# Altium schematic symbol library SMD Transistors.SchLib: 34 symbols
Pins are listed as number, name and electrical type; pins without a type are passive.

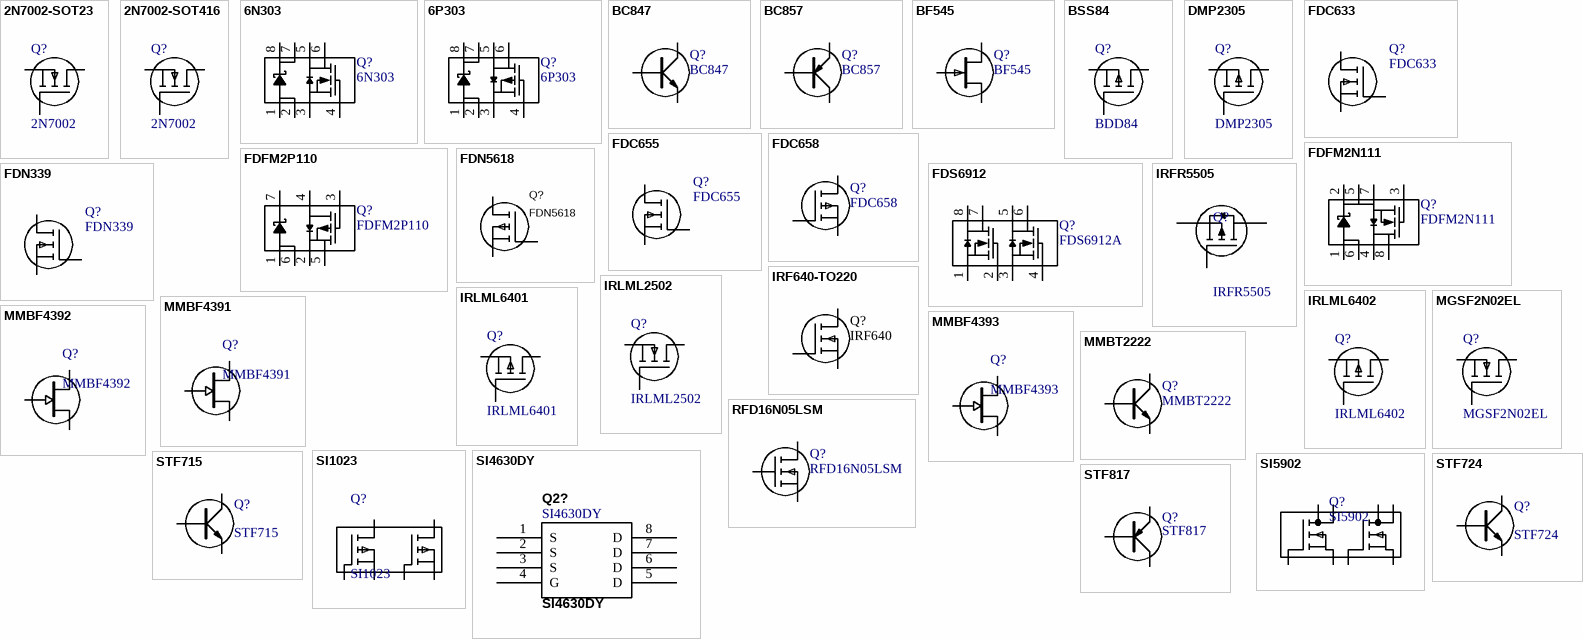
[diagram p0: symbols 2N7002-SOT23 to STF817]

## 2N7002-SOT23
designator Q?, comment 2N7002
N CHANNEL MOSFET 2N7002 SOT23; Manufacturer: Fairchild Semiconductor; Drain to Source Voltage (Vdss): 60V; Vgs(th) (Max) @ Id: 2.5V @ 250µA; Power - Max: 200mW; Current - Continuous Drain (Id) @ 25° C: 115mA; Rds On (Max) @ Id, Vgs: 7.5 Ohm @ 500mA, 10V; FET Type: MOSFET N-Channel, Metal Oxide; FET Feature: Logic Level Gate; Input Capacitance (Ciss) @ Vds: 50pF @ 25V; Reel: Q2; Supplier 1: Digi-Key; Supplier Part Number 1: 2N7002NTR-ND; Package / Case: SOT-23-3, TO-236-3, Micro3™, SSD3, SST3; RoHS: RoHS Compliant; Mounting Type: Surface Mount; Packaging: Tape & Reel (TR); Gate Charge (Qg) @ Vgs: -; Supplier Part Number: 2N7002NTR-ND; Supplier: Digi-Key; Category: Discrete Semiconductor Products; Manufacturer Part Number: 2N7002
footprint SOT23-GDS
pins: D, G, S

## 2N7002-SOT416
designator Q?, comment 2N7002
N CHANNEL MOSFET 2N7002 SOT416; Manufacturer Part Number: NTA7002NT1G; Manufacturer: ON Semiconductor; Reel: Q6; Supplier 1: Digi-Key; Supplier Part Number 1: NTA7002NT1GOSTR-ND
footprint SOT416-GDS (SOT416 GDS)
pins: D, G, S

## 6N303
designator Q?
NMOS with Shottky diode in MicroFET 3x3mm; Supplier 1: Digi-Key; Supplier Part Number 1: NTMSD6N303R2GOS-ND
footprint SO8
pins: 1, 2, 3, 4, 5, 6, 7, 8

## 6P303
designator Q?
NMOS with Shottky diode in MicroFET 3x3mm
footprint SO8
pins: 1, 2, 3, 4, 5, 6, 7, 8

## BC847
designator Q?
BC847 SMALL SIGNAL NPN TRANSISTOR; Manufacturer Part Number: BC847BMTF; Manufacturer: Fairchild Semiconductor; Current - Collector (Ic) (Max): 100mA; Frequency - Transition: 300MHz; Vce Saturation (Max) @ Ib, Ic: 200mV @ 5mA, 100mA; Voltage - Collector Emitter Breakdown (Max): 45V; Power - Max: 310mW; DC Current Gain (hFE) (Min) @ Ic, Vce: 200 @ 2mA, 5V; Supplier 1: Digi-Key; Supplier Part Number 1: BC847BMTFCT-ND; RoHS: RoHS Compliant; Transistor Type: NPN; Mounting Type: Surface Mount; Packaging: Cut Tape (CT); Package / Case: SOT-23-3, TO-236-3, Micro3™, SSD3, SST3; Current - Collector Cutoff (Max): -; Supplier: Digi-Key; Category: Discrete Semiconductor Products; Supplier Part Number: BC847BMTFCT-ND
footprint SOT23-BCE
pins: B, C, E

## BC857
designator Q?
BC857 SMALL SIGNAL PNP BIPOLAR TRANSISTOR; Manufacturer: Diodes Inc; Manufacturer Part Number: BC857C-7-F; Vce Saturation (Max) @ Ib, Ic: 650mV @ 5mA, 100mA; Current - Collector (Ic) (Max): 100mA; Voltage - Collector Emitter Breakdown (Max): 45V; Frequency - Transition: 200MHz; Power - Max: 300mW; DC Current Gain (hFE) (Min) @ Ic, Vce: 420 @ 2mA, 5V; Current - Collector Cutoff (Max): 15nA; Supplier 1: Digi-Key; Supplier Part Number 1: BC857C-FDICT-ND; Mounting Type: Surface Mount; Packaging: Cut Tape (CT); Package / Case: SOT-23-3, TO-236-3, Micro3™, SSD3, SST3; Transistor Type: PNP; RoHS: RoHS Compliant; Supplier: Digi-Key; Supplier Part Number: BC857C-FDICT-ND; Category: Discrete Semiconductor Products
footprint SOT23-BCE
pins: B, C, E

## BF545
designator Q?
BF545 SMALL SIGNAL JFET; Manufacturer Part Number: BF545C,215; Manufacturer: NXP Semiconductors; Voltage - Rated: 30V; Transistor Type: N-Channel JFET; Current Rating: 25mA; Supplier 1: Digi-Key; Supplier Part Number 1: 568-1966-2-ND; Packaging: Tape & Reel (TR); Voltage - Test: -; Package / Case: SST3 (SOT-23-3); Power - Output: -; Supplier Part Number: 568-1966-2-ND; RoHS: RoHS Compliant; Noise Figure: -; Supplier: Digi-Key; Gain: -; Current - Test: -; Frequency: -; Category: Discrete Semiconductor Products
footprint SOT23-GDS
pins: D, G, S

## BSS84
designator Q?, comment BDD84
P CHANNEL MOSFET; Manufacturer: Infineon Technologies; Manufacturer Part Number: BSS84P L6327; Reel: Q11; Input Capacitance (Ciss) @ Vds: 19pF @ 25V; Current - Continuous Drain (Id) @ 25° C: 170mA; Vgs(th) (Max) @ Id: 2V @ 20µA; FET Feature: Logic Level Gate; FET Type: MOSFET P-Channel, Metal Oxide; Power - Max: 360mW; Gate Charge (Qg) @ Vgs: 1.5nC @ 10V; Drain to Source Voltage (Vdss): 60V; Rds On (Max) @ Id, Vgs: 8 Ohm @ 170mA, 10V; Supplier 1: Digi-Key; Supplier: Digi-Key; Packaging: Tape & Reel (TR); RoHS: RoHS Compliant; Category: Discrete Semiconductor Products; Package / Case: SOT-23; Mounting Type: Surface Mount; Supplier Part Number 1: BSS84PL6327INTR-ND; Supplier Part Number: BSS84PL6327INTR-ND
footprint SOT23-GDS
pins: D, G, S

## DMP2305
designator Q?
P CHANNEL MOSFET; Manufacturer Part Number: DMP2305U-7; Manufacturer: Diodes Inc; Input Capacitance (Ciss) @ Vds: 727pF @ 20V; Gate Charge (Qg) @ Vgs: 7.6nC @ 4.5V; FET Type: MOSFET P-Channel, Metal Oxide; Rds On (Max) @ Id, Vgs: 60 mOhm @ 4.2A, 4.5V; Drain to Source Voltage (Vdss): 20V; Vgs(th) (Max) @ Id: 900mV @ 250µA; Power - Max: 1.4W; Current - Continuous Drain (Id) @ 25° C: 4.2A; FET Feature: Logic Level Gate; Supplier 1: Digi-Key; Packaging: Tape & Reel (TR); RoHS: RoHS Compliant; Supplier: Digi-Key; Mounting Type: Surface Mount; Category: Discrete Semiconductor Products; Package / Case: SOT-23; Supplier Part Number 1: DMP2305UDITR-ND; Supplier Part Number: DMP2305UDITR-ND
footprint SOT23-GDS
pins: D, G, S

## FDC633
designator Q?
N CHANNEL MOSFET; Manufacturer: Fairchild Semiconductor; Manufacturer Part Number: FDC6333C; Power - Max: 700mW; Vgs(th) (Max) @ Id: 3V @ 250µA; Drain to Source Voltage (Vdss): 30V; Current - Continuous Drain (Id) @ 25° C: 2.5A, 2A; Input Capacitance (Ciss) @ Vds: 282pF @ 15V; Gate Charge (Qg) @ Vgs: 6.6nC @ 10V; FET Type: N and P-Channel; Rds On (Max) @ Id, Vgs: 95 mOhm @ 2.5A, 10V; FET Feature: Logic Level Gate; Supplier 1: Digi-Key; Supplier Part Number 1: FDC6333CTR-ND; Package / Case: 6-SSOT, SuperSOT-6; Packaging: Tape & Reel (TR); Mounting Type: Surface Mount; Category: Discrete Semiconductor Products; Supplier: Digi-Key; RoHS: RoHS Compliant; Supplier Part Number: FDC6333CTR-ND
footprint SOT23-6
pins: 1, 2, 3, 4, 5, 6

## FDC655
designator Q?
N CHANNEL MOSFET; Manufacturer Part Number: FDC655BN; Manufacturer: Fairchild Semiconductor; Drain to Source Voltage (Vdss): 30V; FET Type: MOSFET N-Channel, Metal Oxide; Power - Max: 800mW; Input Capacitance (Ciss) @ Vds: 570pF @ 15V; Gate Charge (Qg) @ Vgs: 15nC @ 10V; Current - Continuous Drain (Id) @ 25° C: 6.3A; Vgs(th) (Max) @ Id: 3V @ 250µA; FET Feature: Logic Level Gate; Rds On (Max) @ Id, Vgs: 25 mOhm @ 6.3A, 10V; Reel: Q12; Supplier 1: Digi-Key; Supplier Part Number 1: FDC655BNCT-ND; Category: Discrete Semiconductor Products; Supplier Part Number: FDC655BNCT-ND; Packaging: Cut Tape (CT); Mounting Type: Surface Mount; RoHS: RoHS Compliant; Supplier: Digi-Key; Package / Case: 6-SSOT, SuperSOT-6
footprint SOT23-6
pins: 1, 2, 3, 4, 5, 6

## FDC658
designator Q?
P-CHANNEL MOSFET; Manufacturer Part Number: FDC658AP; Manufacturer: Fairchild Optoelectronics Group; FET Feature: Logic Level Gate; Input Capacitance (Ciss) @ Vds: 470pF @ 15V; Vgs(th) (Max) @ Id: 3V @ 250µA; Current - Continuous Drain (Id) @ 25° C: 4A; Rds On (Max) @ Id, Vgs: 50 mOhm @ 4A, 10V; Power - Max: 800mW; FET Type: MOSFET P-Channel, Metal Oxide; Gate Charge (Qg) @ Vgs: 8.1nC @ 5V; Drain to Source Voltage (Vdss): 30V; Reel: Q14; Supplier 1: Digi-Key; Supplier Part Number 1: FDC658APDKR-ND; Packaging: Digi-Reel®; Mounting Type: Surface Mount; Category: Discrete Semiconductor Products; Supplier Part Number: FDC658APDKR-ND; RoHS: RoHS Compliant; Supplier: Digi-Key; Package / Case: SuperSOT-6
footprint SOT23-6
pins: 1, 2, 3, 4, 5, 6

## FDFM2N111
designator Q?
NMOS with Shottky diode in MicroFET 3x3mm; Manufacturer: Fairchild Semiconductor; FET Type: MOSFET N-Channel, Metal Oxide; Rds On (Max) @ Id, Vgs: 100 mOhm @ 4A, 4.5V; Gate Charge (Qg) @ Vgs: 3.8nC @ 4.5V; Drain to Source Voltage (Vdss): 20V; Vgs(th) (Max) @ Id: 1.5V @ 250µA; FET Feature: Diode (Isolated); Current - Continuous Drain (Id) @ 25° C: 4A; Input Capacitance (Ciss) @ Vds: 273pF @ 10V; Power - Max: 800mW; Supplier 1: Digi-Key; Supplier Part Number 1: FDFM2N111-ND; Category: Discrete Semiconductor Products; Supplier: Digi-Key; Package / Case: 6-MLP, Power33; Supplier Part Number: FDFM2N111-ND; Packaging: Tape & Reel (TR); Mounting Type: Surface Mount; Manufacturer Part Number: FDFM2N111; RoHS: RoHS Compliant
pins: 1 A, 2 A, 3 S, 4 G, 5 D, 6 D, 7 C, 8 C

## FDFM2P110
designator Q?
PMOS with Shottky diode in MicroFET 3x3mm; Manufacturer: Fairchild Semiconductor; Current - Continuous Drain (Id) @ 25° C: 3.5A; Rds On (Max) @ Id, Vgs: 140 mOhm @ 3.5A, 4.5V; Gate Charge (Qg) @ Vgs: 4nC @ 4.5V; FET Feature: Diode (Isolated); Power - Max: 800mW; Drain to Source Voltage (Vdss): 20V; Vgs(th) (Max) @ Id: 1.5V @ 250µA; Input Capacitance (Ciss) @ Vds: 280pF @ 10V; FET Type: MOSFET P-Channel, Metal Oxide; Supplier 1: Digi-Key; Supplier Part Number 1: FDFM2P110-ND; RoHS: RoHS Compliant; Package / Case: 6-MLP, Power33; Supplier: Digi-Key; Mounting Type: Surface Mount; Manufacturer Part Number: FDFM2P110; Supplier Part Number: FDFM2P110-ND; Category: Discrete Semiconductor Products; Packaging: Tape & Reel (TR)
pins: 1 A, 2 A, 3 S, 4 G, 5 D, 6 D, 7 C

## FDN339
designator Q?
N-MOS TRANSISTOR FDN339; Manufacturer: Fairchild Semiconductor; Manufacturer Part Number: FDN339AN; Power - Max: 460mW; Rds On (Max) @ Id, Vgs: 35 mOhm @ 3A, 4.5V; FET Type: MOSFET N-Channel, Metal Oxide; Vgs(th) (Max) @ Id: 1.5V @ 250µA; FET Feature: Logic Level Gate; Input Capacitance (Ciss) @ Vds: 700pF @ 10V; Current - Continuous Drain (Id) @ 25° C: 3A; Drain to Source Voltage (Vdss): 20V; Gate Charge (Qg) @ Vgs: 10nC @ 4.5V; Reel: Q4; Supplier 1: Digi-Key; Supplier Part Number 1: FDN339ANTR-ND; Mounting Type: Surface Mount; RoHS: RoHS Compliant; Packaging: Tape & Reel (TR); Supplier: Digi-Key; Supplier Part Number: FDN339ANTR-ND; Package / Case: 3-SSOT, SuperSOT-3; Category: Discrete Semiconductor Products
footprint SOT23-GDS
pins: D, G, S

## FDN5618
designator Q?
P-MOS; Reel: MAN; Supplier 1: Digi-Key; Supplier Part Number 1: FDN5618PTR-ND
footprint SOT23-GDS
pins: D, G, S

## FDS6912
designator Q?, comment FDS6912A
NMOS with Shottky diode in MicroFET 3x3mm; Supplier 1: Digi-Key; Supplier Part Number 1: FDS6912ACT-ND
footprint SO8
pins: 1, 2, 3, 4, 5, 6, 7, 8

## IRF640-TO220
designator Q?, comment IRF640
footprint TO220V-GDS
footprint TO220H-GDS
pins: D, G, S

## IRFR5505
designator Q?
P CHANNEL POWERMOS DPAK; Manufacturer: International Rectifier; Manufacturer Part Number: IRFR5505TRPBF; FET Feature: Standard; Current - Continuous Drain (Id) @ 25° C: 18A; Input Capacitance (Ciss) @ Vds: 650pF @ 25V; Gate Charge (Qg) @ Vgs: 32nC @ 10V; Drain to Source Voltage (Vdss): 55V; Power - Max: 57W; Vgs(th) (Max) @ Id: 4V @ 250µA; Rds On (Max) @ Id, Vgs: 110 mOhm @ 9.6A, 10V; FET Type: MOSFET P-Channel, Metal Oxide; Mounting Type: Surface Mount; Packaging: Tape & Reel (TR); Package / Case: DPak, TO-252 (2 leads+tab), SC-63; Category: Discrete Semiconductor Products; RoHS: RoHS Compliant; Supplier 1: Digi-Key; Supplier Part Number 1: IRFR5505PBFCT-ND
footprint DPAK-GDS
pins: D, G, S

## IRLML2502
designator Q?
N CHANNEL MOSFET; Manufacturer Part Number: IRLML2502TRPBF; Manufacturer: International Rectifier; Drain to Source Voltage (Vdss): 20V; Gate Charge (Qg) @ Vgs: 12nC @ 5V; FET Feature: Logic Level Gate; Rds On (Max) @ Id, Vgs: 45 mOhm @ 4.2A, 4.5V; Vgs(th) (Max) @ Id: 1.2V @ 250µA; Current - Continuous Drain (Id) @ 25° C: 4.2A; Input Capacitance (Ciss) @ Vds: 740pF @ 15V; Power - Max: 1.25W; FET Type: MOSFET N-Channel, Metal Oxide; Supplier 1: Digi-Key; Supplier Part Number 1: IRLML2502PBFTR-ND; Category: Discrete Semiconductor Products; RoHS: RoHS Compliant; Mounting Type: Surface Mount; Package / Case: SOT-23-3, TO-236-3, Micro3™, SSD3, SST3; Packaging: Tape & Reel (TR); Supplier: Digi-Key; Supplier Part Number: IRLML2502PBFTR-ND
footprint SOT23-GDS
pins: D, G, S

## IRLML6401
designator Q?
N CHANNEL MOSFET; Manufacturer: International Rectifier; Manufacturer Part Number: IRLML6401TRPBF; Vgs(th) (Max) @ Id: 950mV @ 250µA; FET Feature: Logic Level Gate; Drain to Source Voltage (Vdss): 12V; Input Capacitance (Ciss) @ Vds: 830pF @ 10V; Current - Continuous Drain (Id) @ 25° C: 4.3A; Gate Charge (Qg) @ Vgs: 15nC @ 5V; FET Type: MOSFET P-Channel, Metal Oxide; Power - Max: 1.3W; Rds On (Max) @ Id, Vgs: 50 mOhm @ 4.3A, 4.5V; Reel: Q13; Supplier 1: Digi-Key; Supplier Part Number 1: IRLML6401PBFTR-ND; RoHS: RoHS Compliant; Packaging: Tape & Reel (TR); Supplier: Digi-Key; Supplier Part Number: IRLML6401PBFTR-ND; Mounting Type: Surface Mount; Category: Discrete Semiconductor Products; Package / Case: SOT-23-3, TO-236-3, Micro3™, SSD3, SST3
footprint SOT23-GDS
pins: D, G, S

## IRLML6402
designator Q?
N CHANNEL MOSFET; Manufacturer: International Rectifier; Manufacturer Part Number: IRLML6402TRPBF; Drain to Source Voltage (Vdss): 20V; Vgs(th) (Max) @ Id: 1.2V @ 250µA; Power - Max: 1.3W; FET Type: MOSFET P-Channel, Metal Oxide; Current - Continuous Drain (Id) @ 25° C: 3.7A; Input Capacitance (Ciss) @ Vds: 633pF @ 10V; FET Feature: Logic Level Gate; Rds On (Max) @ Id, Vgs: 65 mOhm @ 3.7A, 4.5V; Gate Charge (Qg) @ Vgs: 12nC @ 5V; REEL: Q15; Supplier 1: Digi-Key; Supplier Part Number 1: IRLML6402PBFTR-ND; Supplier Part Number: IRLML6402PBFTR-ND; Category: Discrete Semiconductor Products; RoHS: RoHS Compliant; Packaging: Tape & Reel (TR); Package / Case: SOT-23-3, TO-236-3, Micro3™, SSD3, SST3; Mounting Type: Surface Mount; Supplier: Digi-Key
footprint SOT23-GDS
pins: D, G, S

## MGSF2N02EL
designator Q?
N CHANNEL MOSFET 2N7002 SOT23; Supplier 1: Digi-Key; Supplier Part Number 1: MGSF2N02ELT1GOSCT-ND
footprint SOT23-GDS
pins: D, G, S

## MMBF4391
designator Q?
Supplier 1: Digi-Key; Supplier Part Number 1: MMBF4391LT1OSCT-ND
footprint SOT23-DSG (Footprint not found)
pins: D, G, S

## MMBF4392
designator Q?
Supplier 1: Digi-Key; Supplier 2: Digi-Key; Supplier Part Number 2: MMBF4392TR-ND
footprint SOT23-DSG (Footprint not found)
pins: D, G, S

## MMBF4393
designator Q?
Supplier 1: Digi-Key; Supplier 2: Digi-Key; Supplier Part Number 2: MMBF4393TR-ND
footprint SOT23-DSG (Footprint not found)
pins: D, G, S

## MMBT2222
designator Q?
BC847 SMALL SIGNAL NPN TRANSISTOR; Supplier 1: Digi-Key; Supplier Part Number 1: MMBT2222A-FDICT-ND
footprint SOT23-BCE
pins: B, C, E

## RFD16N05LSM
designator Q?
N CHANNEL MOSFET; Supplier 1: Digi-Key; Supplier Part Number 1: RFD16N05LSM9ACT-ND
footprint TO252AA-GDS
pins: D, G, S

## SI1023
designator Q?
DUAL P CHANNEL MOSFET
pins: 1, 2, 3, 4, 5, 6

## SI4630DY
designator Q2?
N VHANNEL MOSFET; Manufacturer Part Number: SI4630DY-T1-GE3; Manufacturer: Vishay/Siliconix; Supplier 1: Digi-Key; Supplier Part Number 1: SI4630DY-T1-GE3TR-ND
footprint SO8
pins: 1 S, 2 S, 3 S, 4 G, 5 D, 6 D, 7 D, 8 D

## SI5902
designator Q?
DUAL N CHANNEL MOSFET
footprint CHIPFET-1206X8 (CHIPFET 1206-8)
pins: 1 S1, 2 G1, 3 S2, 4 G2, 5 D2A, 6 D2B, 7 D1A, 8 D1B

## STF715
designator Q?
Manufacturer: STMicroelectronics; Frequency - Transition: 50MHz; Current - Collector Cutoff (Max): 1mA; Voltage - Collector Emitter Breakdown (Max): 80V; DC Current Gain (hFE) (Min) @ Ic, Vce: 40 @ 1A, 2V; Power - Max: 1.4W; Current - Collector (Ic) (Max): 1.5A; Vce Saturation (Max) @ Ib, Ic: 500mV @ 100mA, 1A; Transistor Type: NPN; Supplier 1: Digi-Key; Packaging: Tape & Reel (TR); Category: Discrete Semiconductor Products; Package / Case: SC-62, SOT-89-3, TO-243-3; RoHS: RoHS Compliant; Mounting Type: Surface Mount; Supplier: Digi-Key; Manufacturer Part Number: STF715; Supplier Part Number 1: 497-4656-2-ND; Supplier Part Number: 497-4656-2-ND
footprint SOT89-BCE
pins: B, C, E

## STF724
designator Q?
Manufacturer: STMicroelectronics; Transistor Type: NPN; Current - Collector Cutoff (Max): 100µA; Voltage - Collector Emitter Breakdown (Max): 30V; Current - Collector (Ic) (Max): 3A; DC Current Gain (hFE) (Min) @ Ic, Vce: 100 @ 100mA, 2V; Power - Max: 1.4W; Frequency - Transition: 100MHz; Vce Saturation (Max) @ Ib, Ic: 1.1V @ 150mA, 3A; Reel: Q9; Supplier 1: Digi-Key; Supplier: Digi-Key; Manufacturer Part Number: STF724; Package / Case: SC-62, SOT-89-3, TO-243-3; Category: Discrete Semiconductor Products; Mounting Type: Surface Mount; Packaging: Tape & Reel (TR); RoHS: RoHS Compliant; Supplier Part Number 1: STF724-ND; Supplier Part Number: STF724-ND
footprint SOT89-BCE
pins: B, C, E

## STF817
designator Q?
Manufacturer Part Number: STF817A; Manufacturer: STMicroelectronics; Voltage - Collector Emitter Breakdown (Max): 80V; DC Current Gain (hFE) (Min) @ Ic, Vce: 30 @ 1A, 2V; Current - Collector (Ic) (Max): 1.5A; Vce Saturation (Max) @ Ib, Ic: 500mV @ 100mA, 1A; Current - Collector Cutoff (Max): 1mA; Transistor Type: PNP; Power - Max: 1.4W; Frequency - Transition: 50MHz; Supplier 1: Digi-Key; RoHS: RoHS Compliant; Packaging: Tape & Reel (TR); Mounting Type: Surface Mount; Package / Case: SC-62, SOT-89-3, TO-243-3; Category: Discrete Semiconductor Products; Supplier: Digi-Key; Supplier Part Number 1: 497-4345-2-ND; Supplier Part Number: 497-4345-2-ND
footprint SOT89-BCE
pins: B, C, E